# Altium footprint library Connectors.PcbLib: 76 footprints (part 2 of 5)
Each footprint in its own frame and in the unit in brackets; x right, y up, seen from the top. Pads: shape width x height; smd on the part's side, far side on the other; paste and mask are expansions set on the pad; w line width, h text height; cw(c..) or ccw(c..) is an arc to the next point about the centre after c.
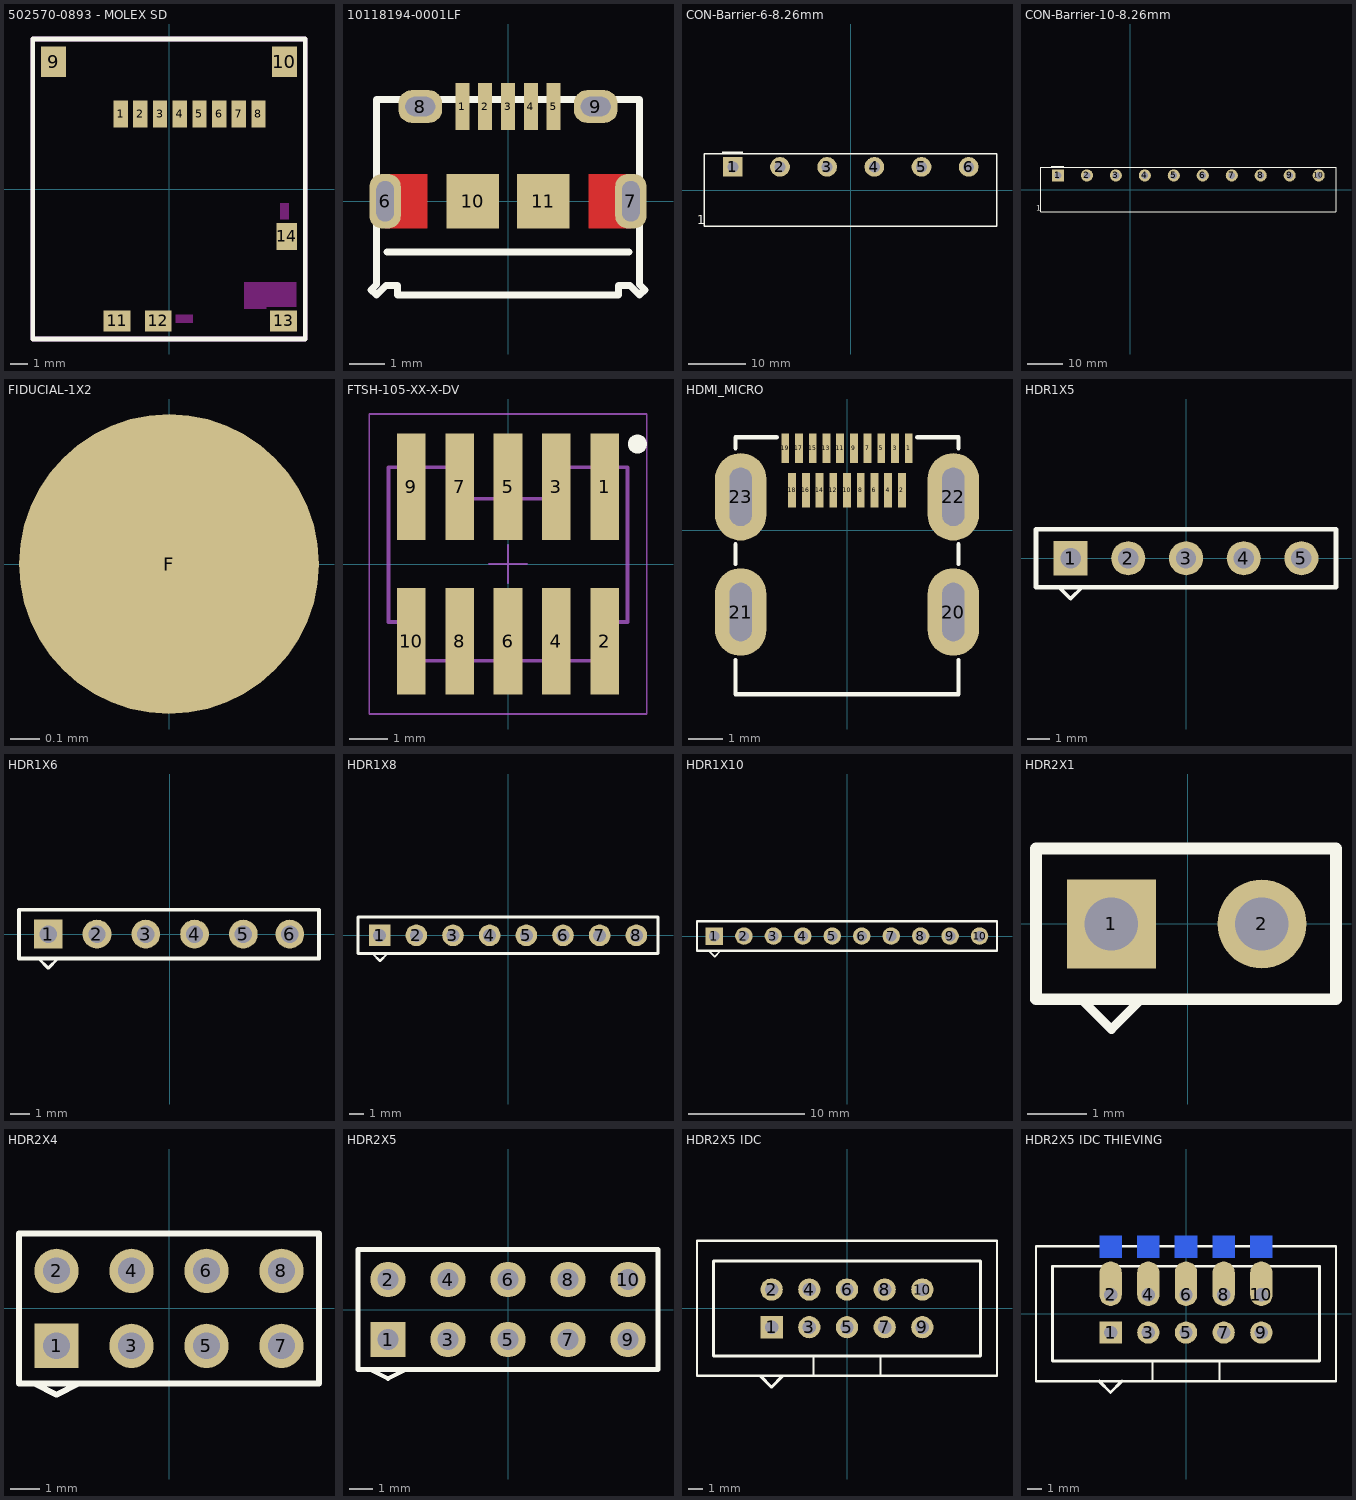
[diagram p1: the footprints below, top view; thin cyan lines are the x and y axes]

## 502570-0893 - MOLEX SD [mm] "Molex SD Card Footprint 502570-0893"
pads (14):
  rect 0.8x1.5 smd: 1(-2.7,4.2) 2(-1.6,4.2) 3(-0.5,4.2) 4(0.6,4.2) 5(1.7,4.2) 6(2.8,4.2) 7(3.9,4.2) 8(5,4.2)
  rect 1.4x1.7 smd: 9(-6.45,7.1) 10(6.45,7.1)
  rect 1.5x1.15 smd: 11(-2.9,-7.375) 12(-0.6,-7.375) 13(6.4,-7.375)
  rect 1.15x1.5 smd paste+0: 14(6.575,-2.65)
Top Layer keep-out:
  region: 6.7,-1.7 6.7,-0.775 6.2,-0.775 6.2,-1.7
  region: 1.35,-7.5 1.35,-7 0.35,-7 0.35,-7.5
  region: 5.45,-6.699 5.45,-5.199 4.2,-5.199 4.2,-6.699
  region: 7.125,-6.6 7.125,-5.2 5.375,-5.2 5.375,-6.6
Top Overlay:
  lines w0.254: -7.62,-8.382 -7.62,8.382 7.62,8.382 7.62,-8.382 -7.62,-8.382
Mechanical 13:
  lines w0.254: -7.62,-8.382 7.62,-8.382 7.62,8.382 -7.62,8.382 -7.62,-8.382
3D body "5025700893.stp": height 1.85, standoff 0.05, extent -6.858,-7.753 6.942,7.747

## 10118194-0001LF [mm]
pads (11):
  rect 0.4x1.35 smd: 1(-1.3,2.7) 2(-0.65,2.7) 3(0,2.7) 4(0.65,2.7) 5(1.3,2.7)
  rrect80% 0.89x1.55 hole 0.5 slot 1.15 at 90 deg: 6(-3.5,0) 7(3.5,0)
  rrect80% 1.25x0.93 hole 0.55 slot 0.85 at 0 deg: 8(-2.5,2.7) 9(2.5,2.7)
  rect 1.5x1.55 smd: 10(-1,0) 11(1,0)
Top Layer:
  region: -3.5,0.775 -2.3,0.775 -2.3,-0.775 -3.5,-0.775
  region: 3.5,-0.775 2.3,-0.775 2.3,0.775 3.5,0.775
Top Overlay:
  lines w0.203: -3.45,-1.45 3.45,-1.45 ; 3.15,-2.675 -3.15,-2.675 -3.15,-2.4 -3.475,-2.4 -3.75,-2.675 -3.9,-2.525 -3.75,-2.375 -3.75,2.9 3.75,2.9 3.75,-2.375 3.9,-2.525 3.75,-2.675 3.475,-2.4 3.15,-2.4 3.15,-2.675 ; 3.15,-2.675 3.15,-2.675
Top Paste:
  drawing of 4 lines, arcs and shapes, not listed
Top Solder:
  region: 3.5,-0.875 2.2,-0.875 2.2,0.875 3.5,0.875
  region: -3.5,0.875 -2.2,0.875 -2.2,-0.875 -3.5,-0.875
3D body: height 3, standoff 0, extent -4.002,-2.777 4.002,3.002

## CON-Barrier-6-8.26mm [mil]
pads (6):
  rect 136x135.98 hole 75.98: 1(-812.5,160)
  oval 136x135.98 hole 75.98: 2(-487.5,160) 3(-162.5,160) 4(162.5,160) 5(487.5,160) 6(812.5,160)
Top Overlay:
  lines w8: -880,250 -880,258 ; -880,258 -880,265 -745,265 -745,250 -745,258 -880,258
  lines w10: -1007.5,-250 1007.5,-250 1007.5,250 -1007.5,250 -1007.5,-250
  text "1" at -1059,-235 h60
3D body: height 530, standoff 0, extent -1007.48,-249.98 1007.48,249.98

## CON-Barrier-10-8.26mm [mil]
pads (10):
  rect 136x135.98 hole 75.98: 1(-812.5,160)
  oval 136x135.98 hole 75.98: 2(-487.5,160) 3(-162.5,160) 4(162.5,160) 5(487.5,160) 6(812.5,160) 7(1138.29,160) 8(1463.29,160) 9(1788.29,160) 10(2113.29,160)
Top Overlay:
  lines w8: -880,250 -880,258 ; -880,258 -745,258 -745,250 -745,265 -880,265 -880,258
  lines w10: 2308,-250 -1007.5,-250 -1007.5,250 2308.19,250 2308.19,-250
  text "1" at -1059,-235 h60
3D body: height 530, standoff 0, extent -1007.48,-249.98 2308.19,249.98

## FIDUCIAL-1X2 [mil]
pads (1):
  rrect100% 40x40 smd paste-3897.64 mask+20: F(0,0)
3D body: height 0.79, standoff 0, extent -19.84,-19.96 20.01,19.97

## FTSH-105-XX-X-DV [mm] "1.27mm pitch, 10 pin, terminal strip; vertical, SMT"
height 5.97
pads (10):
  rect 0.75x2.8 smd: 1(2.54,2.03) 2(2.54,-2.03) 3(1.27,2.03) 4(1.27,-2.03) 5(0,2.03) 6(0,-2.03) 7(-1.27,2.03) 8(-1.27,-2.03) 9(-2.54,2.03) 10(-2.54,-2.03)
Top Overlay:
  circle w0.25: c3.4,3.15 r0.125
Mechanical 12:
  lines w0.001: -3.137,-1.524 -2.54,-1.524 -2.54,-2.54 2.54,-2.54 2.54,-1.524 3.137,-1.524 3.137,2.54 1.079,2.54 1.079,1.714 -1.079,1.714 -1.079,2.54 -3.137,2.54 -3.137,-1.524
Mechanical 13:
  lines w0.1: -3.137,-1.524 -2.54,-1.524 -2.54,-2.54 2.54,-2.54 2.54,-1.524 3.137,-1.524 3.137,2.54 1.079,2.54 1.079,1.714 -1.079,1.714 -1.079,2.54 -3.137,2.54 -3.137,-1.524
Mechanical 15:
  lines w0.05: -0.5,0 0.5,0 ; 0,-0.5 0,0.5 ; -3.645,-3.937 -3.645,3.937 3.645,3.937 3.645,-3.937 -3.645,-3.937

## HDMI_MICRO [mm]
pads (23):
  rect 0.23x0.85 smd mask+0.051: 1(1.8,2.388) 3(1.4,2.388) 5(1,2.388) 7(0.6,2.388) 9(0.2,2.388) 11(-0.2,2.388) 13(-0.6,2.388) 15(-1,2.388) 17(-1.4,2.388) 19(-1.8,2.388)
  rect 0.23x1 smd mask+0.051: 2(1.6,1.163) 4(1.2,1.163) 6(0.8,1.163) 8(0.4,1.163) 10(0,1.163) 12(-0.4,1.163) 14(-0.8,1.163) 16(-1.2,1.163) 18(-1.6,1.163)
  oval 1.5x2.55 hole 0.65 slot 1.7 at 90 deg unplated mask+0.051: 20(3.1,-2.387) 21(-3.1,-2.387) 22(3.1,0.973) 23(-3.1,0.973)
Top Overlay:
  lines w0.127: -3.25,-3.787 -3.25,-4.787 3.25,-4.787 3.25,-3.787 ; -3.25,-0.987 -3.25,-0.412 ; -3.25,2.388 -3.25,2.713 -2.05,2.713 ; 2.05,2.713 3.25,2.713 3.25,2.388 ; 3.25,-0.987 3.25,-0.412
3D body "10118242-001RLF.STP": height 2.98, standoff -0.55, extent -3.25,-4.787 3.25,2.713

## HDR1X5 [mm]
pads (5):
  rect 1.5x1.5 hole 0.9: 1(-5.08,0)
  round 1.5 hole 0.9: 2(-2.54,0) 3(0,0) 4(2.54,0) 5(5.08,0)
Top Overlay:
  lines w0.152: -5.588,-1.27 -5.08,-1.778 -4.572,-1.27
  lines w0.2: -6.6,-1.27 6.6,-1.27 6.6,1.27 -6.6,1.27 -6.6,-1.27
3D body: height 8.5, standoff 0, extent -6.6,-1.27 6.6,1.27

## HDR1X6 [mm]
pads (6):
  rect 1.5x1.5 hole 0.9: 1(-6.33,0)
  round 1.5 hole 0.9: 2(-3.79,0) 3(-1.25,0) 4(1.29,0) 5(3.83,0) 6(6.25,0)
Top Overlay:
  lines w0.152: -6.838,-1.27 -6.33,-1.778 -5.822,-1.27
  lines w0.2: -7.85,-1.27 -7.85,1.27 7.77,1.27 7.77,-1.27 -7.85,-1.27
3D body: height 8.5, standoff 0, extent -7.85,-1.27 7.77,1.27

## HDR1X8 [mm]
pads (8):
  rect 1.5x1.5 hole 0.9: 1(-8.89,0)
  round 1.5 hole 0.9: 2(-6.35,0) 3(-3.81,0) 4(-1.27,0) 5(1.27,0) 6(3.81,0) 7(6.35,0) 8(8.89,0)
Top Overlay:
  lines w0.152: -9.378,-1.27 -8.87,-1.778 -8.362,-1.27
  lines w0.2: -10.39,-1.27 -10.39,1.27 10.39,1.27 10.39,-1.27 -10.39,-1.27
3D body: height 8.5, standoff 0, extent -10.39,-1.27 10.39,1.27

## HDR1X10 [mm]
pads (10):
  rect 1.5x1.5 hole 0.9: 1(-11.43,0)
  round 1.5 hole 0.9: 2(-8.89,0) 3(-6.35,0) 4(-3.81,0) 5(-1.27,0) 6(1.27,0) 7(3.81,0) 8(6.35,0) 9(8.89,0) 10(11.43,0)
Top Overlay:
  lines w0.152: -11.918,-1.27 -11.41,-1.778 -10.902,-1.27
  lines w0.2: -12.93,-1.27 12.93,-1.27 12.93,1.27 -12.93,1.27 -12.93,-1.27
3D body: height 8.5, standoff 0, extent -12.93,-1.27 12.93,1.27

## HDR2X1 [mm] "Connector; Header; 2X1 Position"
height 0.6
pads (2):
  rect 1.5x1.5 hole 0.9: 1(-1.29,0)
  round 1.5 hole 0.9: 2(1.25,0)
Top Overlay:
  lines w0.152: -1.798,-1.27 -1.29,-1.778 -0.782,-1.27
  lines w0.2: -2.56,-1.27 2.5,-1.27 2.5,1.27 -2.56,1.27 -2.56,-1.27
3D body: height 6.35, standoff 0, extent -2.56,-1.27 2.5,1.27

## HDR2X4 [mm] "Connector; Header; 4x2 Position"
height 0.6
pads (8):
  rect 1.5x1.5 hole 0.9: 1(-3.81,-1.27)
  round 1.5 hole 0.9: 2(-3.81,1.27) 3(-1.27,-1.27) 4(-1.27,1.27) 5(1.27,-1.27) 6(1.27,1.27) 7(3.81,-1.27) 8(3.81,1.27)
Top Overlay:
  lines w0.2: -5.08,-2.54 -5.08,2.54 5.08,2.54 5.08,-2.54 -5.08,-2.54
  lines w0.203: -4.572,-2.54 -3.81,-2.921 -3.048,-2.54
3D body: height 6.35, standoff 0, extent -5.18,-2.64 5.18,2.64

## HDR2X5 [mm] "Connector; Header; 5x2 Position"
pads (10):
  rect 1.5x1.5 hole 0.9: 1(-5.08,-1.27)
  round 1.5 hole 0.9: 2(-5.08,1.27) 3(-2.54,-1.27) 4(-2.54,1.27) 5(0,-1.27) 6(0,1.27) 7(2.54,-1.27) 8(2.54,1.27) 9(5.08,-1.27) 10(5.08,1.27)
Top Overlay:
  lines w0.2: -6.35,-2.54 6.35,-2.54 6.35,2.54 -6.35,2.54 -6.35,-2.54
  lines w0.203: -5.842,-2.54 -5.08,-2.921 -4.318,-2.54
3D body: height 6.35, standoff 0, extent -6.45,-2.64 6.45,2.64

## HDR2X5 IDC [mm] "Connector; Header; 5x2 Position"
pads (10):
  rect 1.5x1.5 hole 0.9: 1(-5.08,-1.27)
  round 1.5 hole 0.9: 2(-5.08,1.27) 3(-2.54,-1.27) 4(-2.54,1.27) 5(0,-1.27) 6(0,1.27) 7(2.54,-1.27) 8(2.54,1.27) 9(5.08,-1.27) 10(5.08,1.27)
Top Overlay:
  lines w0.152: -2.25,-4.55 -2.25,-3.2 ; 2.25,-4.55 2.25,-3.2 ; -10.11,-4.55 -10.11,4.55 10.11,4.55 10.11,-4.55 -10.11,-4.55
  lines w0.2: -9.01,-3.2 -9.01,3.2 9.01,3.2 9.01,-3.2 -9.01,-3.2
  lines w0.203: -5.842,-4.55 -5.083,-5.309 -4.325,-4.55
Mechanical 1:
  lines w0.152: -5.33,-1.52 -5.33,-1.02 -4.83,-1.02 -4.83,-1.52 -5.33,-1.52 ; -5.33,1.02 -5.33,1.52 -4.83,1.52 -4.83,1.02 -5.33,1.02 ; -2.79,-1.52 -2.79,-1.02 -2.29,-1.02 -2.29,-1.52 -2.79,-1.52 ; -2.79,1.02 -2.79,1.52 -2.29,1.52 -2.29,1.02 -2.79,1.02 ; -0.25,-1.52 -0.25,-1.02 0.25,-1.02 0.25,-1.52 -0.25,-1.52 ; -0.25,1.02 -0.25,1.52 0.25,1.52 0.25,1.02 -0.25,1.02 ; 2.29,-1.52 2.29,-1.02 2.79,-1.02 2.79,-1.52 2.29,-1.52 ; 2.29,1.02 2.29,1.52 2.79,1.52 2.79,1.02 2.29,1.02 ; 4.83,-1.52 4.83,-1.02 5.33,-1.02 5.33,-1.52 4.83,-1.52 ; 4.83,1.02 4.83,1.52 5.33,1.52 5.33,1.02 4.83,1.02
3D body: height 2, standoff 0, extent -10.186,-4.626 10.186,4.626
3D body: height 9.1, standoff 0, extent -10.109,-4.549 10.109,4.549
3D body: height 9.1, standoff -3.1, extent -2.789,-1.519 -2.291,-1.021
3D body: height 9.1, standoff -3.1, extent -5.329,-1.519 -4.831,-1.021
3D body: height 9.1, standoff -3.1, extent -0.249,-1.519 0.249,-1.021
3D body: height 9.1, standoff -3.1, extent -5.329,1.021 -4.831,1.519
3D body: height 9.1, standoff -3.1, extent -2.789,1.021 -2.291,1.519
3D body: height 9.1, standoff -3.1, extent -0.249,1.021 0.249,1.519
3D body: height 9.1, standoff -3.1, extent 2.291,-1.519 2.789,-1.021
3D body: height 9.1, standoff -3.1, extent 4.831,-1.519 5.329,-1.021
3D body: height 9.1, standoff -3.1, extent 2.291,1.021 2.789,1.519
3D body: height 9.1, standoff -3.1, extent 4.831,1.021 5.329,1.519

## HDR2X5 IDC THIEVING [mm] "Connector; Header; 5x2 Position"
pads (25):
  rect 1.5x1.5 hole 0.9 mask+0.051: 1(-5.08,-1.27)
  oval 1.5x3 hole 0.9 copper offset 0,0.75 mask-0.914: 2(-5.08,1.27) 4(-2.54,1.27) 6(0,1.27) 8(2.54,1.27) 10(5.08,1.27)
  round 1.5 hole 0.9 mask+0.051: 3(-2.54,-1.27) 5(0,-1.27) 7(2.54,-1.27) 9(5.08,-1.27)
  round 1.602 on Top Solder: ""(-5.08,1.27) ""(-2.54,1.27) ""(0,1.27) ""(2.54,1.27) ""(5.08,1.27)
  round 1.602 on Bottom Solder: ""(-5.08,1.27) ""(-2.54,1.27) ""(0,1.27) ""(2.54,1.27) ""(5.08,1.27)
  rect 1.5x1.5 smd far side paste-0.762: ""(-5.08,4.521) ""(-2.54,4.521) ""(0,4.521) ""(2.54,4.521) ""(5.08,4.521)
Top Overlay:
  lines w0.152: -2.25,-4.55 -2.25,-3.2 ; 2.25,-4.55 2.25,-3.2 ; -10.11,-4.55 -10.11,4.55 10.11,4.55 10.11,-4.55 -10.11,-4.55
  lines w0.2: -9.01,-3.2 -9.01,3.2 9.01,3.2 9.01,-3.2 -9.01,-3.2
  lines w0.203: -5.842,-4.55 -5.083,-5.309 -4.325,-4.55
Bottom Solder:
  region: -5.08,3.531 -5.08,2.286 -4.318,1.524
  region: -5.08,3.531 -5.08,2.286 -5.842,1.524
  region: -5.08,2.388 -5.639,1.829 -4.521,1.829
  region: -2.54,3.531 -2.54,2.286 -1.778,1.524
  region: -2.54,3.531 -2.54,2.286 -3.302,1.524
  region: -2.54,2.388 -3.099,1.829 -1.981,1.829
  region: 0,3.531 0,2.286 0.762,1.524
  region: 0,3.531 0,2.286 -0.762,1.524
  region: 0,2.388 -0.559,1.829 0.559,1.829
  region: 2.54,3.531 2.54,2.286 3.302,1.524
  region: 2.54,3.531 2.54,2.286 1.778,1.524
  region: 2.54,2.388 1.981,1.829 3.099,1.829
  region: 5.08,3.531 5.08,2.286 5.842,1.524
  region: 5.08,3.531 5.08,2.286 4.318,1.524
  region: 5.08,2.388 4.521,1.829 5.639,1.829
Mechanical 1:
  lines w0.152: -5.33,-1.52 -5.33,-1.02 -4.83,-1.02 -4.83,-1.52 -5.33,-1.52 ; -5.33,1.02 -5.33,1.52 -4.83,1.52 -4.83,1.02 -5.33,1.02 ; -2.79,-1.52 -2.79,-1.02 -2.29,-1.02 -2.29,-1.52 -2.79,-1.52 ; -2.79,1.02 -2.79,1.52 -2.29,1.52 -2.29,1.02 -2.79,1.02 ; -0.25,-1.52 -0.25,-1.02 0.25,-1.02 0.25,-1.52 -0.25,-1.52 ; -0.25,1.02 -0.25,1.52 0.25,1.52 0.25,1.02 -0.25,1.02 ; 2.29,-1.52 2.29,-1.02 2.79,-1.02 2.79,-1.52 2.29,-1.52 ; 2.29,1.02 2.29,1.52 2.79,1.52 2.79,1.02 2.29,1.02 ; 4.83,-1.52 4.83,-1.02 5.33,-1.02 5.33,-1.52 4.83,-1.52 ; 4.83,1.02 4.83,1.52 5.33,1.52 5.33,1.02 4.83,1.02
3D body: height 2, standoff 0, extent -10.186,-4.626 10.186,4.626
3D body: height 9.1, standoff 0, extent -10.109,-4.549 10.109,4.549
3D body: height 9.1, standoff -3.1, extent -2.789,-1.519 -2.291,-1.021
3D body: height 9.1, standoff -3.1, extent -5.329,-1.519 -4.831,-1.021
3D body: height 9.1, standoff -3.1, extent -0.249,-1.519 0.249,-1.021
3D body: height 9.1, standoff -3.1, extent -5.329,1.021 -4.831,1.519
3D body: height 9.1, standoff -3.1, extent -2.789,1.021 -2.291,1.519
3D body: height 9.1, standoff -3.1, extent -0.249,1.021 0.249,1.519
3D body: height 9.1, standoff -3.1, extent 2.291,-1.519 2.789,-1.021
3D body: height 9.1, standoff -3.1, extent 4.831,-1.519 5.329,-1.021
3D body: height 9.1, standoff -3.1, extent 2.291,1.021 2.789,1.519
3D body: height 9.1, standoff -3.1, extent 4.831,1.021 5.329,1.519